# Altium footprint library BMD-330.PcbLib: 1 footprints
Each footprint in its own frame and in the unit in brackets; x right, y up, seen from the top. Pads: shape width x height; smd on the part's side, far side on the other; paste and mask are expansions set on the pad; w line width, h text height; cw(c..) or ccw(c..) is an arc to the next point about the centre after c.
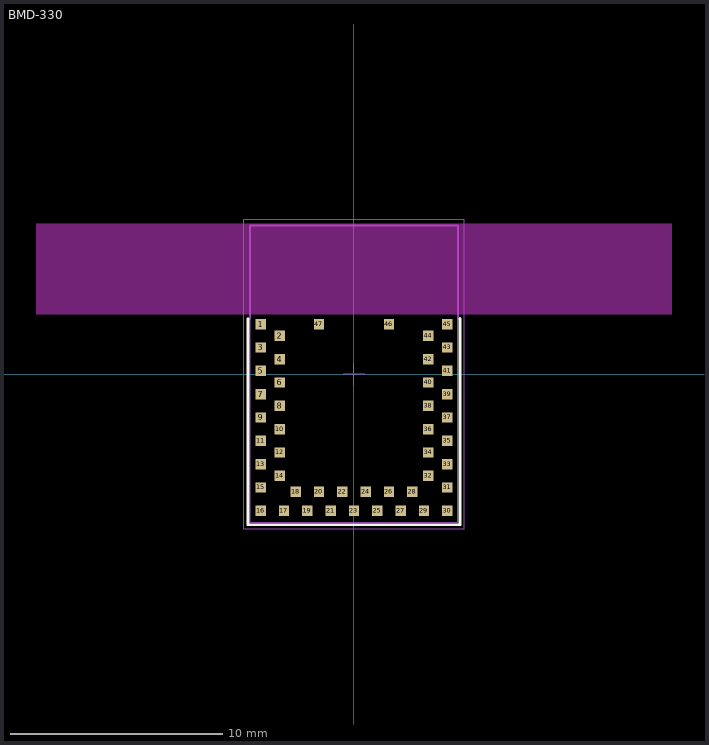
[diagram p0: the footprint, top view; thin cyan lines are the x and y axes]

## BMD-330 [mm] "LGA, 47pin, 1.1mm Pitch, 14mm x 9.8mm"
height 1.9
pads (47):
  rect 0.49x0.49 smd: 1(-4.4,2.35) 2(-3.5,1.8) 3(-4.4,1.25) 4(-3.5,0.7) 5(-4.4,0.15) 6(-3.5,-0.4) 7(-4.4,-0.95) 8(-3.5,-1.5) 9(-4.4,-2.05) 10(-3.5,-2.6) 11(-4.4,-3.15) 12(-3.5,-3.7) 13(-4.4,-4.25) 14(-3.5,-4.8) 15(-4.4,-5.35) 16(-4.4,-6.45) 17(-3.3,-6.45) 18(-2.75,-5.55) 19(-2.2,-6.45) 20(-1.65,-5.55) 21(-1.1,-6.45) 22(-0.55,-5.55) 23(0,-6.45) 24(0.55,-5.55) 25(1.1,-6.45) 26(1.65,-5.55) 27(2.2,-6.45) 28(2.75,-5.55) 29(3.3,-6.45) 30(4.4,-6.45) 31(4.4,-5.35) 32(3.5,-4.8) 33(4.4,-4.25) 34(3.5,-3.7) 35(4.4,-3.15) 36(3.5,-2.6) 37(4.4,-2.05) 38(3.5,-1.5) 39(4.4,-0.95) 40(3.5,-0.4) 41(4.4,0.15) 42(3.5,0.7) 43(4.4,1.25) 44(3.5,1.8) 45(4.4,2.35) 46(1.65,2.35) 47(-1.65,2.35)
Top Overlay:
  lines w0.127: -5,2.6 -5,-7.1 5,-7.1 5,2.62
Keep-Out Layer:
  rectangle: -15,2.8 15,7.1
Mechanical 13:
  lines w0.05: -4.9,-7 -4.9,7 4.9,7 4.9,-7 -4.9,-7
  lines w0.1: -4.9,2.6 -4.9,7 4.9,7 4.9,2.6 ; 4.9,2.6 4.9,2.6
Mechanical 15:
  lines w0.05: -0.5,0 0.5,0 ; 0,-0.5 0,0.5 ; -5.2,-7.3 -5.2,7.3 5.2,7.3 5.2,-7.3 -5.2,-7.3
Multi-Layer:
  pour cut-out: -4.9,2.6 4.9,2.6 4.9,7 -4.9,7
3D body "BMD-300-330-360.STEP": height 1.82, standoff 0.01, extent -4.9,-7 4.9,7